# EAGLE library part AVRISP6 (library bt_avr)
6-pin dual-row connector for Atmel AVRISP programmer interface
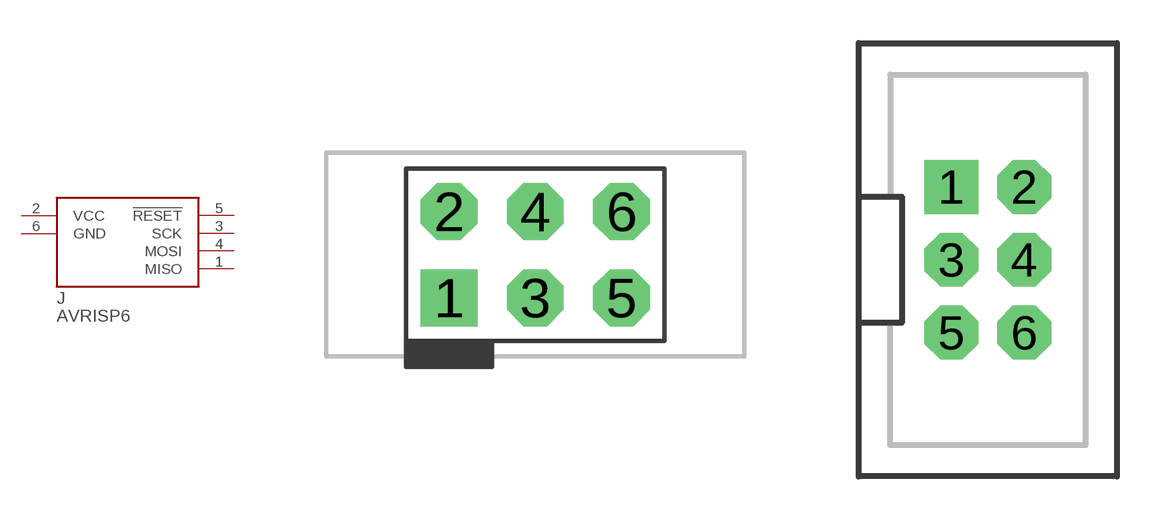
[diagram p1: symbol with the pads of CON6P2R; footprints CON6P2R, 2X3-SHROUDED]

Designator prefix J

## AVRISP6_COMPACT  [CON6P2R]
1  MISO  in
2  VCC  pwr
3  SCK  out
4  MOSI  out
5  !RESET  out
6  GND  pwr

## AVRISP6_SHROUDED  [2X3-SHROUDED]
Pads as for CON6P2R

## AVRISP6_MICRO  [2X3_1.27]
P$1  MISO  in
P$2  SCK  out
P$3  !RESET  out
P$4  GND  pwr
P$5  MOSI  out
P$6  VCC  pwr

## AVRISP6_2LAYER  [2X3_2LAYER]
!RES  !RESET  out
GND  GND  pwr
MISO  MISO  in
MOSI  MOSI  out
SCK  SCK  out
VCC  VCC  pwr

## AVRISP6_SMD  [2X3_SMD]
1  MISO  in
2  SCK  out
3  !RESET  out
4  GND  pwr
5  MOSI  out
6  VCC  pwr

## AVRISP6_TP  [2X3_TP]
Pads as for CON6P2R

## Footprint CON6P2R (pad centres in mm)
6-pin dual row 0.1" connector
drill 1.016 pad 1.676 square: 1 -2.54,-1.27
drill 1.016 pad 1.676 octagon: 2 -2.54,1.27; 3 0,-1.27; 4 0,1.27; 5 2.54,-1.27; 6 2.54,1.27

## Footprint 2X3-SHROUDED (pad centres in mm)
drill 1.016 pad 1.88 square: 1 -1.27,2.54
drill 1.016 pad 1.88 octagon: 2 1.27,2.54; 3 -1.27,0; 4 1.27,0; 5 -1.27,-2.54; 6 1.27,-2.54

## Footprint 2X3_1.27 (pad centres in mm)
smd 0.76 x 2.4: P$1 -1.27,-1.95; P$2 0,-1.95; P$3 1.27,-1.95; P$4 1.27,1.95; P$5 0,1.95; P$6 -1.27,1.95

## Footprint 2X3_2LAYER (pad centres in mm)
smd 1.778 x 3.81: !RES -2.54,0; MISO 2.54,0; SCK 0,0
smd 1.778 x 3.81 bottom: GND -2.54,0; MOSI 0,0; VCC 2.54,0

## Footprint 2X3_SMD (pad centres in mm)
smd 1.016 x 3.302: 1 -2.54,-2.54; 2 -2.54,2.54; 3 0,-2.54; 4 0,2.54; 5 2.54,-2.54; 6 2.54,2.54

## Footprint 2X3_TP (pad centres in mm)
smd 1.27 x 1.27: 1 -1.27,2.54; 2 1.27,2.54; 5 -1.27,-2.54; 6 1.27,-2.54
drill 0.8: 3 -1.27,0; 4 1.27,0